# Altium schematic symbol library LCMXO2-1200ZE-1TG144C.SchLib: 1 symbol
Pins are listed as number, name and electrical type; pins without a type are passive.

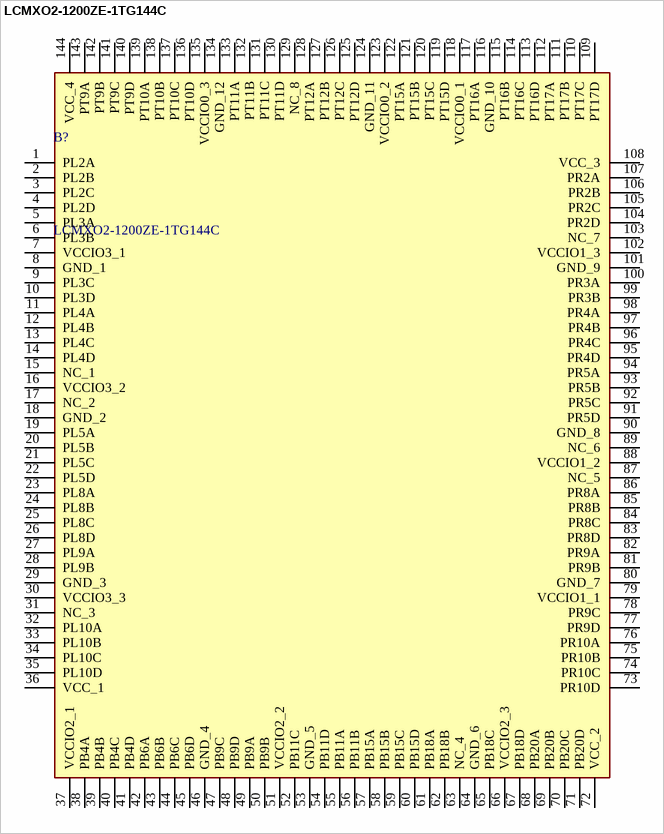
[diagram p0: symbol LCMXO2-1200ZE-1TG144C]

## LCMXO2-1200ZE-1TG144C
designator B?
LATTICE SEMICONDUCTOR - LCMXO2-1200ZE-1TG144C - CPLD, MachXO2 Series, FLASH, 1200, 108 I/O's, TQFP, 144 Pins, 104 MHz; Geometry.Height: 1.6mm; Mouser Part Number: 842-XO21200ZE1TG144C; Mouser Price/Stock: https://www.mouser.co.uk/ProductDetail/Lattice/LCMXO2-1200ZE-1TG144C?qs=O0MBHUYBjj1cB46yMhs%252BbA%3D%3D; Manufacturer_Name: Lattice Semiconductor; Manufacturer_Part_Number: LCMXO2-1200ZE-1TG144C; Datasheet Link: https://datasheet.datasheetarchive.com/originals/distributors/Datasheets-DGA19/41708.pdf
footprint QFP50P2200X2200X160-144N
pins: 1 PL2A, 2 PL2B, 3 PL2C, 4 PL2D, 5 PL3A, 6 PL3B, 7 VCCIO3_1, 8 GND_1, 9 PL3C, 10 PL3D, 11 PL4A, 12 PL4B, 13 PL4C, 14 PL4D, 15 NC_1, 16 VCCIO3_2, 17 NC_2, 18 GND_2, 19 PL5A, 20 PL5B, 21 PL5C, 22 PL5D, 23 PL8A, 24 PL8B, 25 PL8C, 26 PL8D, 27 PL9A, 28 PL9B, 29 GND_3, 30 VCCIO3_3, 31 NC_3, 32 PL10A, 33 PL10B, 34 PL10C, 35 PL10D, 36 VCC_1, 37 VCCIO2_1, 38 PB4A, 39 PB4B, 40 PB4C, 41 PB4D, 42 PB6A, 43 PB6B, 44 PB6C, 45 PB6D, 46 GND_4, 47 PB9C, 48 PB9D, 49 PB9A, 50 PB9B, 51 VCCIO2_2, 52 PB11C, 53 GND_5, 54 PB11D, 55 PB11A, 56 PB11B, 57 PB15A, 58 PB15B, 59 PB15C, 60 PB15D, 61 PB18A, 62 PB18B, 63 NC_4, 64 GND_6, 65 PB18C, 66 VCCIO2_3, 67 PB18D, 68 PB20A, 69 PB20B, 70 PB20C, 71 PB20D, 72 VCC_2, 73 PR10D, 74 PR10C, 75 PR10B, 76 PR10A, 77 PR9D, 78 PR9C, 79 VCCIO1_1, 80 GND_7, 81 PR9B, 82 PR9A, 83 PR8D, 84 PR8C, 85 PR8B, 86 PR8A, 87 NC_5, 88 VCCIO1_2, 89 NC_6, 90 GND_8, 91 PR5D, 92 PR5C, 93 PR5B, 94 PR5A, 95 PR4D, 96 PR4C, 97 PR4B, 98 PR4A, 99 PR3B, 100 PR3A, 101 GND_9, 102 VCCIO1_3, 103 NC_7, 104 PR2D, 105 PR2C, 106 PR2B, 107 PR2A, 108 VCC_3, 109 PT17D, 110 PT17C, 111 PT17B, 112 PT17A, 113 PT16D, 114 PT16C, 115 PT16B, 116 GND_10, 117 PT16A, 118 VCCIO0_1, 119 PT15D, 120 PT15C, 121 PT15B, 122 PT15A, 123 VCCIO0_2, 124 GND_11, 125 PT12D, 126 PT12C, 127 PT12B, 128 PT12A, 129 NC_8, 130 PT11D, 131 PT11C, 132 PT11B, 133 PT11A, 134 GND_12, 135 VCCIO0_3, 136 PT10D, 137 PT10C, 138 PT10B, 139 PT10A, 140 PT9D, 141 PT9C, 142 PT9B, 143 PT9A, 144 VCC_4